# Altium footprint library VHS-95.PcbLib: 1 footprints
Each footprint in its own frame and in the unit in brackets; x right, y up, seen from the top. Pads: shape width x height; smd on the part's side, far side on the other; paste and mask are expansions set on the pad; w line width, h text height; cw(c..) or ccw(c..) is an arc to the next point about the centre after c.
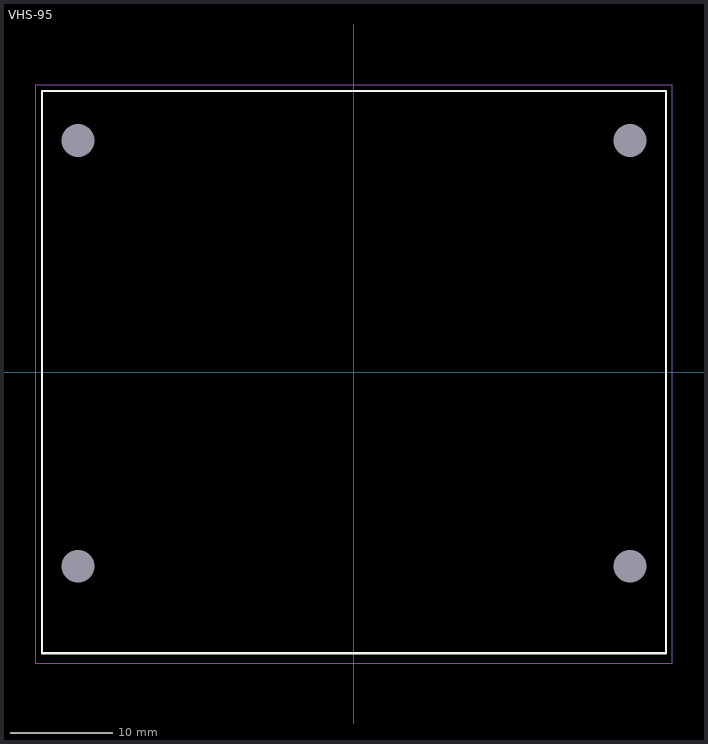
[diagram p0: the footprint, top view; thin cyan lines are the x and y axes]

## VHS-95 [mm]
pads (4):
  round 0.2 hole 3.2 unplated: MH1(27,22.65) MH2(-27,22.65) MH3(-27,-19) MH4(27,-19)
Top Overlay:
  lines w0.2: -30.5,-27.5 -30.5,27.5 30.5,27.5 30.5,-27.5 -30.5,-27.5
Mechanical 13:
  lines w0.1: -30.5,-27.5 30.5,-27.5 30.5,27.5 -30.5,27.5 -30.5,-27.5
Mechanical 15:
  lines w0.1: -31.115,-28.472 -31.115,28.091 31.115,28.091 31.115,-28.472 -31.115,-28.472
3D body: height 4, standoff 1, extent -30.5,-27.5 30.5,27.5
3D body: height 15, standoff 4, extent -30.5,25.678 30.5,27.5
3D body: height 15, standoff 4, extent -30.5,17.458 30.5,19.28
3D body: height 15, standoff 4, extent -30.5,13.692 30.5,15.514
3D body: height 15, standoff 4, extent -30.5,9.965 30.5,11.787
3D body: height 15, standoff 4, extent -30.5,6.028 30.5,7.85
3D body: height 15, standoff 4, extent -30.5,2.599 30.5,4.421
3D body: height 15, standoff 4, extent -30.5,-1.084 30.5,0.738
3D body: height 15, standoff 4, extent -30.5,-4.64 30.5,-2.818
3D body: height 15, standoff 4, extent -30.5,-8.323 30.5,-6.501
3D body: height 15, standoff 4, extent -30.5,-11.752 30.5,-9.93
3D body: height 15, standoff 4, extent -30.5,-15.435 30.5,-13.613
3D body: height 15, standoff 4, extent -30.48,-24.13 30.52,-22.308
3D body: height 15, standoff 4, extent -30.5,-27.5 30.5,-25.678